# Altium footprint library Connectors.PcbLib: 23 footprints (part 1 of 2)
Each footprint in its own frame and in the unit in brackets; x right, y up, seen from the top. Pads: shape width x height; smd on the part's side, far side on the other; paste and mask are expansions set on the pad; w line width, h text height; cw(c..) or ccw(c..) is an arc to the next point about the centre after c.
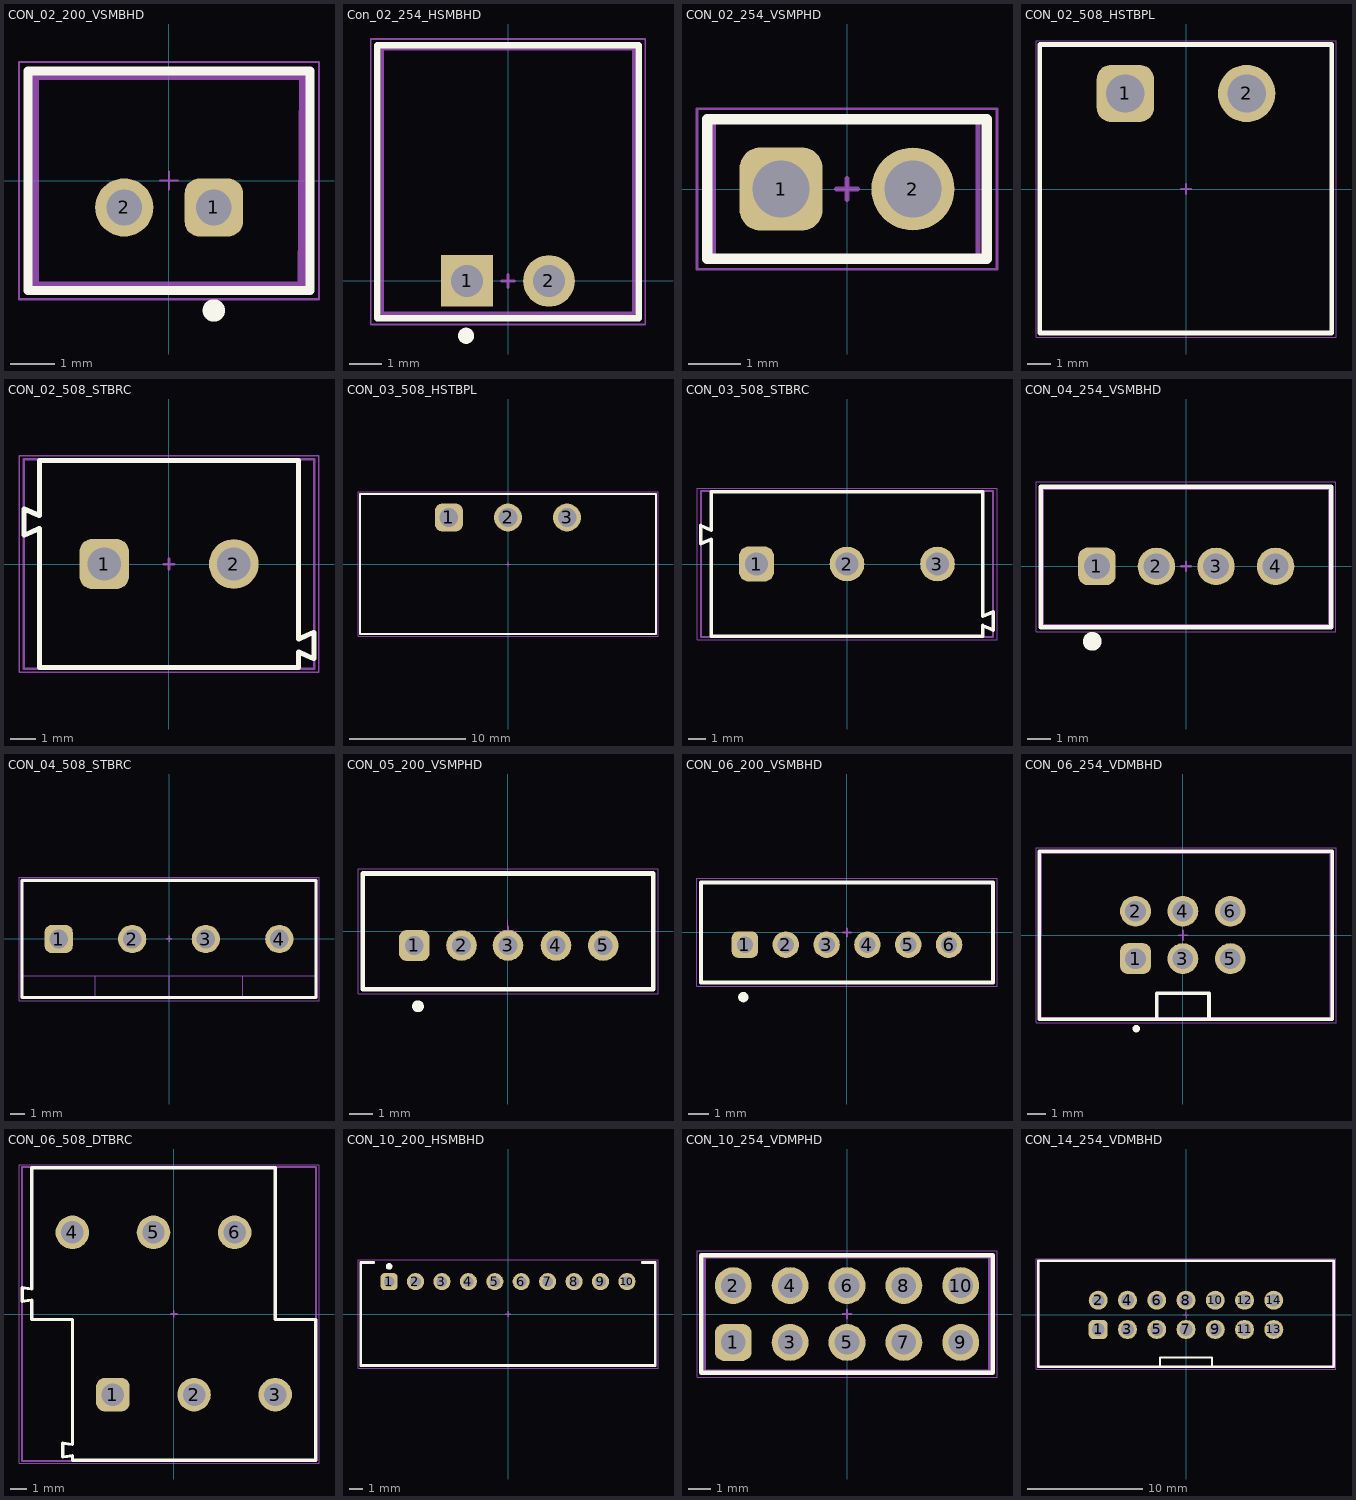
[diagram p0: the footprints below, top view; thin cyan lines are the x and y axes]

## CON_02_200_VSMBHD [mm]
pads (2):
  rrect50% 1.3x1.3 hole 0.8: 1(1,-0.6)
  round 1.3 hole 0.8: 2(-1,-0.6)
Top Overlay:
  circle w0.25: c1,-2.9 r0.125
  lines w0.2: -3.15,-2.45 3.15,-2.45 3.15,2.45 -3.15,2.45 -3.15,-2.45
Top Component Center:
  lines w0.05: -0.2,0 0,0 ; 0,-0.2 0,0 ; 0.2,0 0,0 ; 0,0 0,0.2 0,0
Top Assembly:
  lines w0.1: -3,-2.4 3,-2.4 3,2.4 -3,2.4 -3,-2.4
Top Designator:
  text ".Designator" at -7.617,-0.745 h1.52
Top 3D Body:
  lines w0.2: -3,-2.35 2.975,-2.35 3,2.35 -3,2.35 -3,-2.35
Top Courtyard:
  lines w0.05: -3.35,-2.65 3.35,-2.65 3.35,2.65 -3.35,2.65 -3.35,-2.65
3D body "62000211622.stp": height 6.13, standoff -3.36, extent -3,-2.35 3,2.35

## Con_02_254_HSMBHD [mm]
pads (2):
  rect 1.6x1.6 hole 1 paste-2539.97 mask+0.051: 1(-1.27,0)
  round 1.6 hole 1 paste-2539.97 mask+0.051: 2(1.27,0)
Top Overlay:
  circle w0.3: c-1.3,-1.7 r0.1
  lines w0.2: -4.05,-1.15 4.05,-1.15 4.05,7.3 -4.05,7.3 -4.05,-1.15
Top Component Center:
  lines w0.1: -0.2,0 0,0 ; 0,-0.2 0,0 ; 0,0.2 0,0 ; 0.2,0 0,0
Top Assembly:
  lines w0.1: -3.9,-1 3.9,-1 3.9,7.2 -3.9,7.2 -3.9,-1
Top Designator:
  text ".Designator" at -8.318,4.192 h1.52
Top Courtyard:
  lines w0.05: -4.25,-1.35 -4.25,7.5 4.25,7.5 4.25,-1.35 -3.55,-1.35 -4.25,-1.35
3D body "BLACK JST XH 2 PIN CONNECTOR - P 2.54mm - ANGLED.stp": height 5.78, standoff -2.95, extent -3.9,-0.36 3.9,7.1

## CON_02_254_VSMPHD [mm]
pads (2):
  rrect50% 1.6x1.6 hole 1.1: 1(-1.27,0)
  round 1.6 hole 1.1: 2(1.27,0)
Top Overlay:
  lines w0.2: -2.69,-1.345 2.69,-1.345 2.69,1.345 -2.69,1.345 -2.69,-1.345
Top Component Center:
  lines w0.1: -0.2,0 0,0 ; 0,-0.2 0,0 ; 0,0.2 0,0 ; 0.2,0 0,0
Top Assembly:
  lines w0.1: -2.575,-1.35 -2.575,1.35 2.525,1.35 2.525,-1.35 -2.575,-1.35
Top Designator:
  text ".Designator" at -7.618,-0.508 h1.52
Top Courtyard:
  lines w0.05: -2.89,-1.545 -2.89,1.545 2.89,1.545 2.89,-1.545 -2.89,-1.545
3D body "61300211121.stp": height 8.57, standoff -2.97, extent -2.54,-1.27 2.54,1.27

## CON_02_508_HSTBPL [mm]
pads (2):
  rrect50% 2.4x2.4 hole 1.6: 1(-2.54,4)
  round 2.4 hole 1.6: 2(2.54,4)
Top Overlay:
  lines w0.2: -6.125,-6.025 6.1,-6.025 6.1,6.05 -6.125,6.05 -6.125,-6.025
Top Component Center:
  lines w0.1: -0.2,0 0.2,0 ; 0,-0.2 0,0.2
Top Assembly:
  lines w0.1: -6.075,-6 6.075,-6 6.075,6 -6.075,6 -6.075,-6
Top Designator:
  text ".Designator" at -7.618,-0.508 h1.52
Top Courtyard:
  lines w0.05: -6.28,-6.2 6.28,-6.2 6.28,6.2 -6.28,6.2 -6.28,-6.2
3D body "691313510002.stp": height 8.55, standoff -3.45, extent -6.08,-6 6.08,6

## CON_02_508_STBRC [mm]
pads (2):
  rrect50% 1.95x1.95 hole 1.3: 1(-2.539,0.002)
  round 1.95 hole 1.3: 2(2.541,0.002)
Top Overlay:
  lines w0.2: -5.079,-4.048 5.081,-4.048 5.081,-3.448 5.68,-3.709 5.681,-2.678 5.081,-2.939 5.081,4.052 ; -5.08,-4.017 -5.08,1.394 -5.679,1.132 -5.679,2.162 -5.08,1.9 ; -5.079,1.902 -5.079,4.052 5.081,4.052
Top Component Center:
  lines w0.1: -0.2,0 0,0 ; 0,-0.2 0,0 ; 0,0.2 0,0 ; 0.2,0 0,0
Top Assembly:
  lines w0.1: -5.7,-4.1 -5.7,4.1 5.7,4.1 5.7,-4.1 -5.7,-4.1
Top Designator:
  text ".Designator" at -7.617,-0.506 h1.52
Top 3D Body:
  lines w0.05: -5.079,-4.048 5.081,-4.048 5.081,-3.448 5.68,-3.709 5.681,-2.678 5.081,-2.939 5.081,4.052 ; -5.08,-4.017 -5.08,1.394 -5.679,1.132 -5.679,2.162 -5.08,1.9 ; -5.079,1.902 -5.079,4.052 5.081,4.052
Top Courtyard:
  lines w0.05: -5.879,-4.248 -5.879,4.252 5.881,4.252 5.881,-4.248 -5.879,-4.248
3D body "691213510002.stp": height 10.1, standoff -3.4, extent -5.679,-4.048 5.681,4.052

## CON_03_508_HSTBPL [mm]
pads (3):
  rrect50% 2.4x2.4 hole 1.6: 1(-5.08,4)
  round 2.4 hole 1.6: 2(0,4) 3(5.08,4)
Top Overlay:
  lines w0.2: -12.725,-6.025 -12.725,6.025 12.725,6.025 12.725,-6.025 -12.725,-6.025
Top Component Center:
  lines w0.1: -0.2,0 0,0 ; 0,-0.2 0,0 ; 0,0.2 0,0 ; 0.2,0 0,0
Top Assembly:
  lines w0.1: -12.75,-6.05 12.75,-6.05 12.75,6.05 -12.75,6.05 -12.75,-6.05
Top Designator:
  text ".Designator" at -7.618,-0.508 h1.52
Top 3D Body:
  lines w0.1: -12.7,-6 12.7,-6 12.7,6 -12.7,6 -12.7,-6
Top Courtyard:
  lines w0.05: -12.9,-6.2 -12.9,6.2 12.9,6.2 12.9,-6.2 -12.9,-6.2
3D body "691317510003.stp": height 8.55, standoff -3.45, extent -12.7,-6 12.7,6

## CON_03_508_STBRC [mm]
pads (3):
  rrect50% 1.95x1.95 hole 1.3: 1(-5.08,0)
  round 1.95 hole 1.3: 2(0,0) 3(5.08,0)
Top Overlay:
  lines w0.2: -7.621,-4.019 -7.621,1.392 -8.22,1.13 -8.22,2.16 -7.621,1.898 ; -7.62,-4.05 7.62,-4.05 7.62,-3.45 8.22,-3.711 ; -7.62,1.9 -7.62,4.05 7.62,4.05 7.62,-2.941 8.22,-2.68 8.22,-3.71
Top Component Center:
  lines w0.1: -0.2,0 0,0 ; 0,-0.2 0,0 ; 0,0.2 0,0 ; 0.2,0 0,0
Top Assembly:
  lines w0.1: -8.2,-4.1 -8.2,4.1 8.2,4.1 8.2,-4.1 -8.2,-4.1
Top Designator:
  text ".Designator" at -7.618,-0.508 h1.52
Top 3D Body:
  lines w0.05: -7.621,-4.019 -7.621,1.392 -8.22,1.13 -8.22,2.16 -7.621,1.898 ; -7.62,-4.05 7.62,-4.05 7.62,-3.45 8.22,-3.711 ; -7.62,1.9 -7.62,4.05 7.62,4.05 7.62,-2.941 8.22,-2.68 8.22,-3.71
Top Courtyard:
  lines w0.05: -8.42,-4.25 -8.42,4.25 8.42,4.25 8.42,-4.25 -8.42,-4.25
3D body "691213510003.stp": height 10.1, standoff -3.4, extent -8.22,-4.05 8.22,4.05

## CON_04_254_VSMBHD [mm]
pads (4):
  rrect50% 1.6x1.6 hole 1.1: 1(-3.8,0)
  round 1.6 hole 1.1: 2(-1.26,0) 3(1.28,0) 4(3.82,0)
Top Overlay:
  circle w0.4: c-4,-3.2 r0.2
  lines w0.2: -6.2,-2.6 6.2,-2.6 6.2,3.4 -6.2,3.4 -6.2,-2.6
Top Component Center:
  lines w0.1: -0.2,0 0,0 ; 0,-0.2 0,0 ; 0,0.2 0,0 ; 0.2,0 0,0
Top Assembly:
  lines w0.1: -6.1,-2.5 6.1,-2.5 6.1,3.3 -6.1,3.3 -6.1,-2.5
Top Designator:
  text ".Designator" at -7.618,-0.495 h1.52
Top Courtyard:
  lines w0.05: -6.4,-2.8 6.4,-2.8 6.4,3.6 -6.4,3.6 -6.4,-2.8
3D body "JST - XH - Thru V - 4Pin - 2.54mm.stp": height 7.21, standoff -3, extent -6.147,-2.489 6.147,3.353

## CON_04_508_STBRC [mm]
pads (4):
  rrect50% 1.95x1.95 hole 1.3: 1(-7.62,-0.025)
  round 1.95 hole 1.3: 2(-2.54,-0.025) 3(2.54,-0.025) 4(7.62,-0.025)
Top Overlay:
  lines w0.2: -10.16,-4.075 -10.16,4.025 10.16,4.025 10.16,-4.075 -10.16,-4.075
Top Component Center:
  lines w0.1: -0.2,0 0,0 ; 0,-0.2 0,0 ; 0,0.2 0,0 ; 0.2,0 0,0
Top Assembly:
  lines w0.1: -10.2,-4.1 -10.2,4.1 10.2,4.1 10.2,-4.1 -10.2,-4.1
Top Designator:
  text ".Designator" at -7.618,-0.533 h1.52
Top 3D Body:
  lines w0.05: -10.16,-2.575 10.16,-2.575 ; -5.08,-4.075 -5.08,-2.575 ; 0,-4.075 0,-2.575 ; 5.08,-4.075 5.08,-2.575 ; -10.16,-4.075 -10.16,4.025 10.16,4.025 10.16,-4.075 -10.16,-4.075
Top Courtyard:
  lines w0.05: -10.36,-4.275 -10.36,4.225 10.36,4.225 10.36,-4.275 -10.36,-4.275
3D body "691241510004.stp": height 10.05, standoff -3.45, extent -10.16,-4.075 10.16,4.025

## CON_05_200_VSMPHD [mm] "2.00mm Male Vertical Shrouded Header, 5p"
height 6.1
pads (5):
  rrect50% 1.3x1.3 hole 0.8: 1(-3.968,-0.6)
  round 1.3 hole 0.8: 2(-1.968,-0.6) 3(0,-0.6) 4(2.032,-0.6) 5(4.032,-0.6)
Top Overlay:
  circle w0.25: c-3.81,-3.175 r0.125
  lines w0.2: -6.15,-2.45 -6.15,2.45 6.15,2.45 6.15,-2.45 -6.15,-2.45
Top Component Center:
  lines w0.1: -0.2,0 0,0 ; 0,-0.2 0,0 ; 0,0.2 0,0 ; 0.2,0 0,0
Top Assembly:
  lines w0.1: -6.1,-2.4 6.1,-2.4 6.1,2.4 -6.1,2.4 -6.1,-2.4
Top Designator:
  text ".Designator" at -7.618,-0.883 h1.52
Top Courtyard:
  lines w0.05: -0.5,0 0.5,0 ; 0,-0.5 0,0.5 ; -6.35,-2.65 -6.35,2.65 6.35,2.65 6.35,-2.65 -6.35,-2.65
3D body "62000511622.stp": height 6.13, standoff -3.37, extent -6,-2.35 6,2.35

## CON_06_200_VSMBHD [mm] "2.00mm Male Vertical Shrouded Header, 6p"
height 6.1
pads (6):
  rrect50% 1.3x1.3 hole 0.8: 1(-5,-0.6)
  round 1.3 hole 0.8: 2(-3,-0.6) 3(-1,-0.6) 4(1,-0.6) 5(3,-0.6) 6(5,-0.6)
Top Overlay:
  circle w0.25: c-5.08,-3.175 r0.125
  lines w0.2: -7.15,-2.45 -7.15,2.45 7.15,2.45 7.15,-2.45 -7.15,-2.45
Top Component Center:
  lines w0.1: -0.2,0 0,0 ; 0,-0.2 0,0 ; 0,0.2 0,0 ; 0.2,0 0,0
Top Designator:
  text ".Designator" at -7.618,-0.883 h1.52
Top Courtyard:
  lines w0.05: -7.35,-2.65 -7.35,2.65 7.35,2.65 7.35,-2.65 -7.35,-2.65
3D body "62000611622.stp": height 6.13, standoff -3.37, extent -7,-2.35 7,2.35

## CON_06_254_VDMBHD [mm]
pads (6):
  rrect50% 1.65x1.65 hole 1.1: 1(-2.54,-1.25)
  round 1.65 hole 1.1: 2(-2.54,1.29) 3(0,-1.25) 4(0,1.29) 5(2.54,-1.25) 6(2.54,1.29)
Top Overlay:
  circle w0.2: c-2.5,-5 r0.1
  lines w0.2: -1.4,-4.5 -1.4,-3.1 1.4,-3.1 1.4,-4.5 ; -7.7,-4.5 -7.7,4.5 8,4.5 8,-4.5 -7.7,-4.5
Top Component Center:
  lines w0.1: -0.25,0 0,0 ; 0,-0.25 0,0 ; 0,0.25 0,0 ; 0.25,0 0,0
Top Assembly:
  lines w0.1: -7.62,-4.425 7.9,-4.4 7.9,4.4 -7.6,4.4 -7.62,-4.425
Top Designator:
  text ".Designator" at -7.453,-0.745 h1.52
Top Courtyard:
  lines w0.05: -7.87,-4.675 -7.87,4.7 8.2,4.7 8.2,-4.675 -7.87,-4.675
3D body "IDC_3X2.STEP": height 8.9, standoff -2.9, extent -7.628,-4.417 7.932,4.383

## CON_06_508_DTBRC [mm]
pads (6):
  rrect50% 2.1x2.1 hole 1.4: 1(-3.81,-5.05)
  round 2.1 hole 1.4: 2(1.27,-5.05) 3(6.35,-5.05) 4(-6.35,5.11) 5(-1.27,5.11) 6(3.81,5.11)
Top Overlay:
  lines w0.2: -9.49,0.795 -8.89,0.87 -8.89,-0.35 -6.35,-0.35 -6.35,-8.17 -6.95,-8.095 -6.95,-8.945 -6.35,-8.87 -6.35,-9.15 8.89,-9.15 8.89,-0.35 6.35,-0.35 6.35,9.15 -8.89,9.15 -8.89,1.57 -9.49,1.645 -9.49,0.795
Top Component Center:
  lines w0.1: -0.2,0 0,0 ; 0,-0.2 0,0 ; 0,0.2 0,0 ; 0.2,0 0,0
Top Assembly:
  lines w0.1: -9.5,-9.2 8.9,-9.2 8.9,9.2 7.7,9.2 -9.5,9.2 -9.5,-9.2
Top Designator:
  text ".Designator" at -7.918,-0.508 h1.52
Top 3D Body:
  lines w0.05: -9.49,0.795 -8.89,0.87 -8.89,-0.35 -6.35,-0.35 -6.35,-8.17 -6.95,-8.095 -6.95,-8.945 -6.35,-8.87 -6.35,-9.15 8.89,-9.15 8.89,-0.35 6.35,-0.35 6.35,9.15 -8.89,9.15 -8.89,1.57 -9.49,1.645 -9.49,0.795
Top Courtyard:
  lines w0.05: -9.69,-9.35 9.09,-9.35 9.09,9.35 -9.69,9.35 -9.69,-9.35
3D body "691231510006.stp": height 19.15, standoff -3.45, extent -9.49,-9.15 8.89,9.15

## CON_10_200_HSMBHD [mm]
pads (10):
  rrect50% 1.3x1.3 hole 0.8: 1(-9,2.45)
  round 1.3 hole 0.8: 2(-7,2.45) 3(-5,2.45) 4(-3,2.45) 5(-1,2.45) 6(1,2.45) 7(3,2.45) 8(5,2.45) 9(7,2.45) 10(9,2.45)
Top Overlay:
  circle w0.25: c-9,3.6 r0.125
  lines w0.2: -10.15,3.9 -11.15,3.9 -11.15,-3.9 11.15,-3.9 11.15,3.9 10.15,3.9
Top Component Center:
  lines w0.1: -0.2,0 0,0 ; 0,-0.2 0,0 ; 0,0.2 0,0 ; 0.2,0 0,0
Top Designator:
  text ".Designator" at -7.498,-0.5 h1.5
Top Courtyard:
  lines w0.05: -11.35,-4.1 -11.35,4.1 11.35,4.1 11.35,-4.1 -11.35,-4.1
3D body "62001011722.stp": height 4.83, standoff -3.27, extent -11,-3.8 11,3.8

## CON_10_254_VDMPHD [mm] "Pin Header, pitch 2.54 mm, THT, Vertical, dual row, 10p"
height 8.54
pads (10):
  rrect50% 1.65x1.65 hole 1.1: 1(-5.08,-1.27)
  round 1.65 hole 1.1: 2(-5.08,1.27) 3(-2.54,-1.27) 4(-2.54,1.27) 5(0,-1.27) 6(0,1.27) 7(2.54,-1.27) 8(2.54,1.27) 9(5.08,-1.27) 10(5.08,1.27)
Top Overlay:
  lines w0.2: -6.5,-2.615 6.5,-2.615 6.5,2.615 -6.5,2.615 -6.5,-2.615
Top Component Center:
  lines w0.1: -0.2,0 0,0 ; 0,-0.2 0,0 ; 0,0.2 0,0 ; 0.2,0 0,0
Top Assembly:
  lines w0.1: -6.5,-2.6 6.5,-2.6 6.5,2.6 -6.5,2.6 -6.5,-2.6
Top Designator:
  text ".Designator" at -7.618,-0.508 h1.52
Top 3D Body:
  lines w0.1: -6.35,-2.54 -6.35,2.54 6.35,2.54 6.35,-2.54 -6.35,-2.54
Top Courtyard:
  lines w0.05: -6.7,-2.815 6.7,-2.815 6.7,2.815 -6.7,2.815 -6.7,-2.815
3D body "61301021121.stp": height 8.59, standoff -2.95, extent -6.35,-2.54 6.35,2.54

## CON_14_254_VDMBHD [mm]
pads (14):
  rrect50% 1.65x1.65 hole 1.1: 1(-7.62,-1.27)
  round 1.65 hole 1.1: 2(-7.62,1.27) 3(-5.08,-1.27) 4(-5.08,1.27) 5(-2.54,-1.27) 6(-2.54,1.27) 7(0,-1.27) 8(0,1.27) 9(2.54,-1.27) 10(2.54,1.27) 11(5.08,-1.27) 12(5.08,1.27) 13(7.62,-1.27) 14(7.62,1.27)
Top Overlay:
  lines w0.2: -2.25,-4.5 -2.25,-3.7 2.25,-3.7 2.25,-4.5 ; -12.82,-4.5 -12.82,4.7 12.82,4.7 12.82,-4.5 -12.82,-4.5
Top Component Center:
  lines w0.1: -0.25,0 0,0 ; 0,-0.25 0,0 ; 0,0.25 0,0 ; 0.25,0 0,0
Top Assembly:
  lines w0.1: -12.75,-4.5 -12.75,4.75 12.75,4.75 12.75,-4.5 -12.75,-4.5
Top Designator:
  text ".Designator" at -7.618,-0.433 h1.52
Top Courtyard:
  lines w0.05: -13.02,-4.7 -13.02,4.85 13.02,4.85 13.02,-4.7 -13.02,-4.7
3D body "61201421621.stp": height 9.13, standoff -2.98, extent -12.72,-4.425 12.72,4.75